# Altium schematic symbol library TPS62932DRLR.SchLib: 1 symbol
Pins are listed as number, name and electrical type; pins without a type are passive.

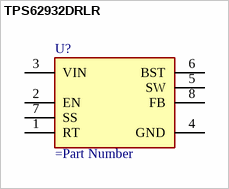
[diagram p0: symbol TPS62932DRLR]

## TPS62932DRLR
designator U?
Copyright: Copyright (C) 2025 Ultra Librarian. All rights reserved.
pins: 1 RT, 2 EN, 3 VIN (power), 4 GND (power), 5 SW (power), 6 BST (power), 7 SS, 8 FB